# Altium footprint library 元器件.PCBLIB: 210 footprints (part 9 of 14)
Each footprint in its own frame and in the unit in brackets; x right, y up, seen from the top. Pads: shape width x height; smd on the part's side, far side on the other; paste and mask are expansions set on the pad; w line width, h text height; cw(c..) or ccw(c..) is an arc to the next point about the centre after c.
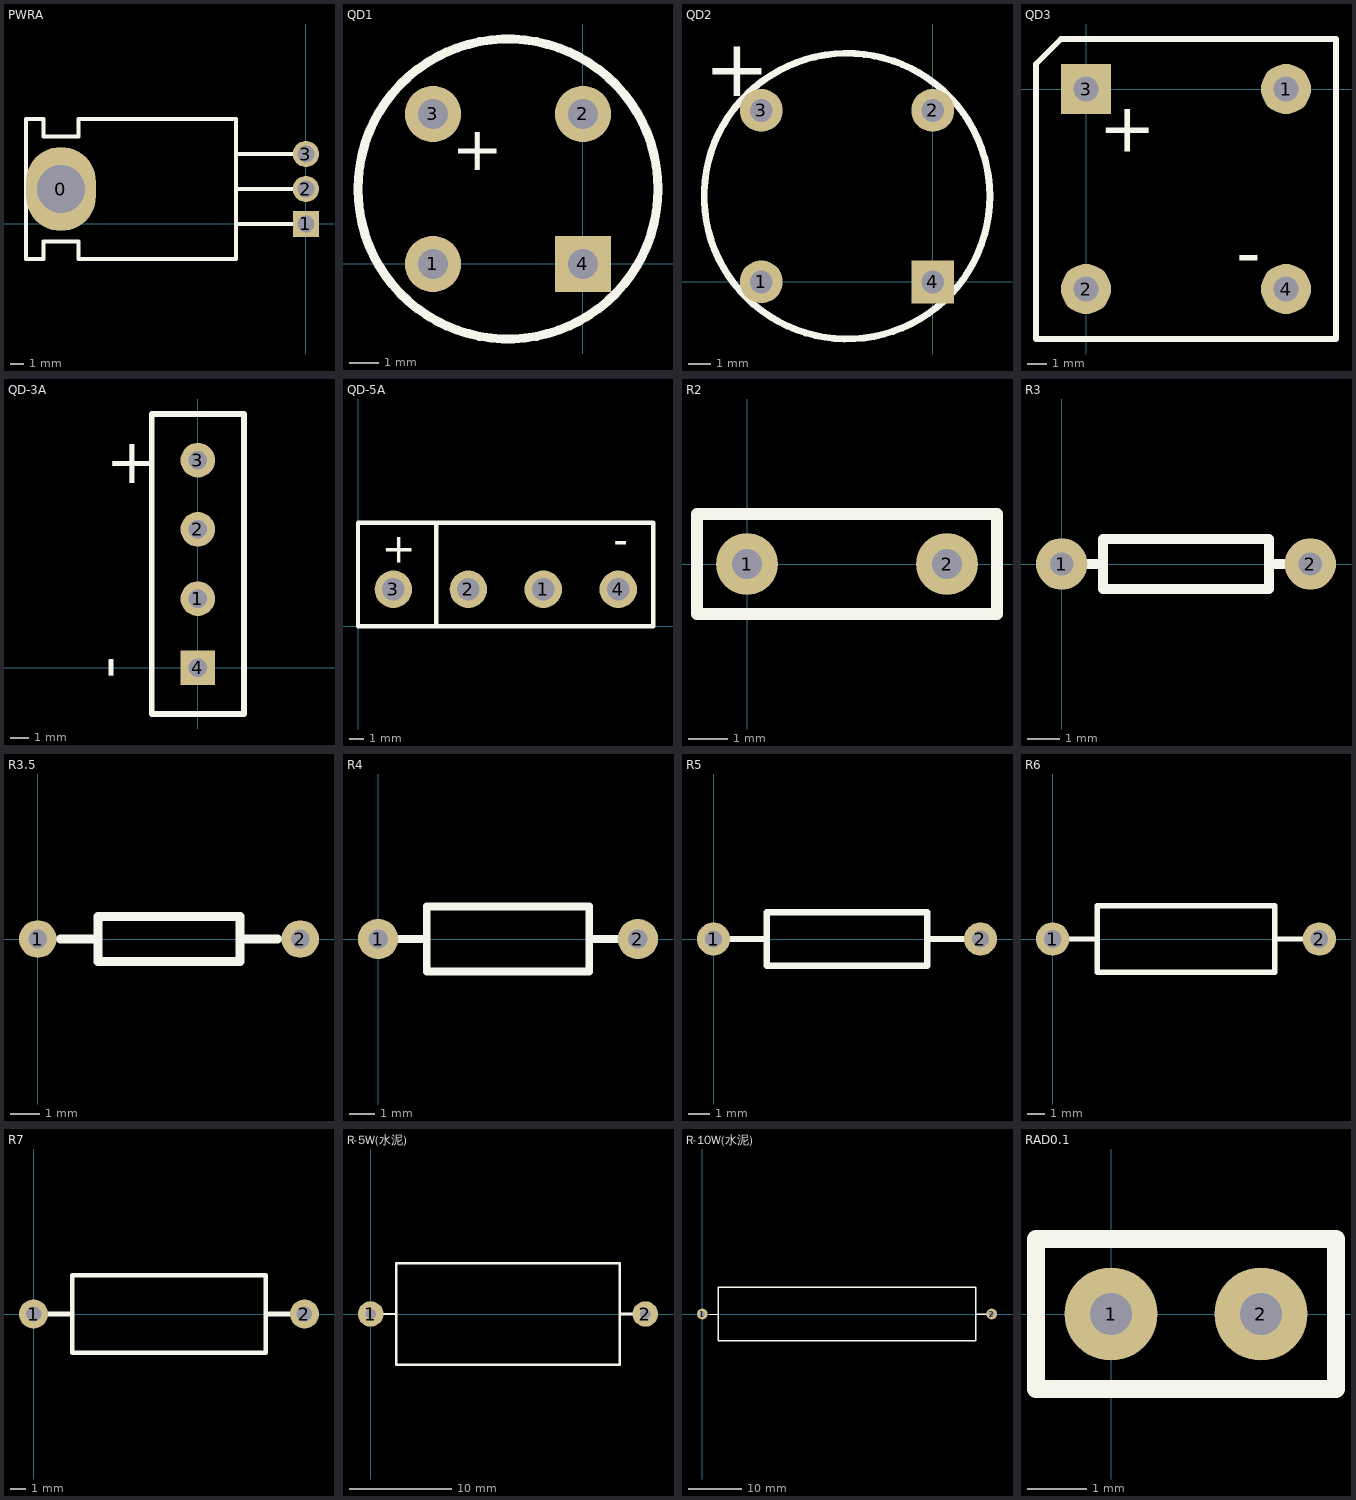
[diagram p8: the footprints below, top view; thin cyan lines are the x and y axes]

## PWRA [mil]
pads (4):
  oval 200x240 hole 138: 0(-700,100)
  rect 75x75 hole 48: 1(0,0)
  round 75 hole 48: 2(0,100) 3(0,200)
TopOverlay:
  circle w10: c-700,100 r80
  lines w12: -200,0 0,0 ; -200,100 0,100 ; -200,200 0,200 ; -800,-100 -750,-100 -750,-50 -650,-50 -650,-100 -200,-100 -200,300 -650,300 -650,250 -750,250 -750,300 -800,300 -800,-100

## QD1 [mil]
pads (4):
  round 75 hole 40: 1(-200,0) 2(0,200) 3(-200,200)
  rect 75x75 hole 40: 4(0,0)
TopOverlay:
  circle w12: c-100,100 r200
  text "+" at -175,125 h60

## QD2 [mil]
pads (4):
  round 75 hole 40: 1(-300,0) 2(0,300) 3(-300,300)
  rect 75x75 hole 40: 4(0,0)
TopOverlay:
  circle w12: c-150,150 r250
  text "+" at -400,325 h100

## QD3 [mil]
pads (4):
  round 100 hole 50: 1(400,0) 2(0,-400) 4(400,-400)
  rect 100x100 hole 50: 3(0,0)
TopOverlay:
  lines w12: -100,-500 -100,50 -50,100 500,100 500,-500 -100,-500
  text "-" at 300,-375 h100
  text "+" at 25,-125 h100

## QD-3A [mil]
pads (4):
  round 75 hole 40: 1(0,150) 2(0,300) 3(0,450)
  rect 75x75 hole 40: 4(0,0)
TopOverlay:
  lines w12: -100,-100 100,-100 100,550 -100,550 -100,-100
  text "+" at -200,400 h100
  text "-" at -225,25 h100

## QD-5A [mm]
pads (4):
  round 2.54 hole 1.524: 1(12.56,2.5) 2(7.48,2.5) 3(2.4,2.5) 4(17.64,2.5)
TopOverlay:
  lines w0.305: 5.3,0 5.3,7 ; 0,0 20,0 20,7 0,7 0,0
  text "+" at 1.6,4.3 h2.03
  text "-" at 18.3,6.4 h2.03

## R2 [mil]
pads (2):
  round 62 hole 30: 1(0,0) 2(200,0)
TopOverlay:
  lines w12: -50,-50 -50,50 250,50 250,-50 -50,-50

## R3 [mil]
pads (2):
  round 62 hole 28: 1(0,0) 2(300,0)
TopOverlay:
  lines w12: 0,0 50,0 ; 300,0 250,0 ; 250,0 250,30 50,30 50,-30 250,-30 250,0

## R3.5 [mil]
pads (2):
  round 50 hole 25: 1(0,0) 2(350,0)
TopOverlay:
  lines w12: 30,0 80,0 ; 270,0 320,0 ; 80,-30 270,-30 270,30 80,30 80,-30

## R4 [mil]
pads (2):
  round 62 hole 30: 1(0,0) 2(400,0)
TopOverlay:
  lines w12: 0,0 75,0 ; 325,0 400,0 ; 75,-50 75,50 325,50 325,-50 75,-50

## R5 [mil]
pads (2):
  round 62 hole 32: 1(0,0) 2(500,0)
TopOverlay:
  lines w12: 0,0 100,0 ; 400,0 500,0 ; 100,-50 100,50 400,50 400,-50 100,-50

## R6 [mil]
pads (2):
  round 75 hole 40: 1(0,0) 2(600,0)
TopOverlay:
  lines w12: 0,0 100,0 ; 500,0 600,0 ; 100,-75 500,-75 500,75 100,75 100,-75

## R7 [mil]
pads (2):
  round 75 hole 40: 1(0,0) 2(700,0)
TopOverlay:
  lines w12: 0,0 100,0 ; 600,0 700,0 ; 100,-100 100,100 600,100 600,-100 100,-100

## R-5W(水泥) [mm]
pads (2):
  round 2.5 hole 1: 1(0,0) 2(27,0)
TopOverlay:
  lines w0.2: 1.2,0 2.5,0
  lines w0.254: 24.5,0 27,0 ; 2.5,-5 2.5,5 24.5,5 24.5,-5 2.5,-5

## R-10W(水泥) [mm]
pads (2):
  round 2 hole 1: 1(0,0) 2(54,0)
TopOverlay:
  lines w0.2: 1.2,0 3,0
  lines w0.254: 51,0 54,0 ; 3,-5 51,-5 51,5 3,5 3,-5

## RAD0.1 [mil]
pads (2):
  round 62 hole 28: 1(0,0) 2(100,0)
TopOverlay:
  lines w12: -50,-50 150,-50 150,50 -50,50 -50,-50